# Altium footprint library PlateCutouts_OldMoney.PcbLib: 27 footprints (part 1 of 3)
Each footprint in its own frame and in the unit in brackets; x right, y up, seen from the top. Pads: shape width x height; smd on the part's side, far side on the other; paste and mask are expansions set on the pad; w line width, h text height; cw(c..) or ccw(c..) is an arc to the next point about the centre after c.
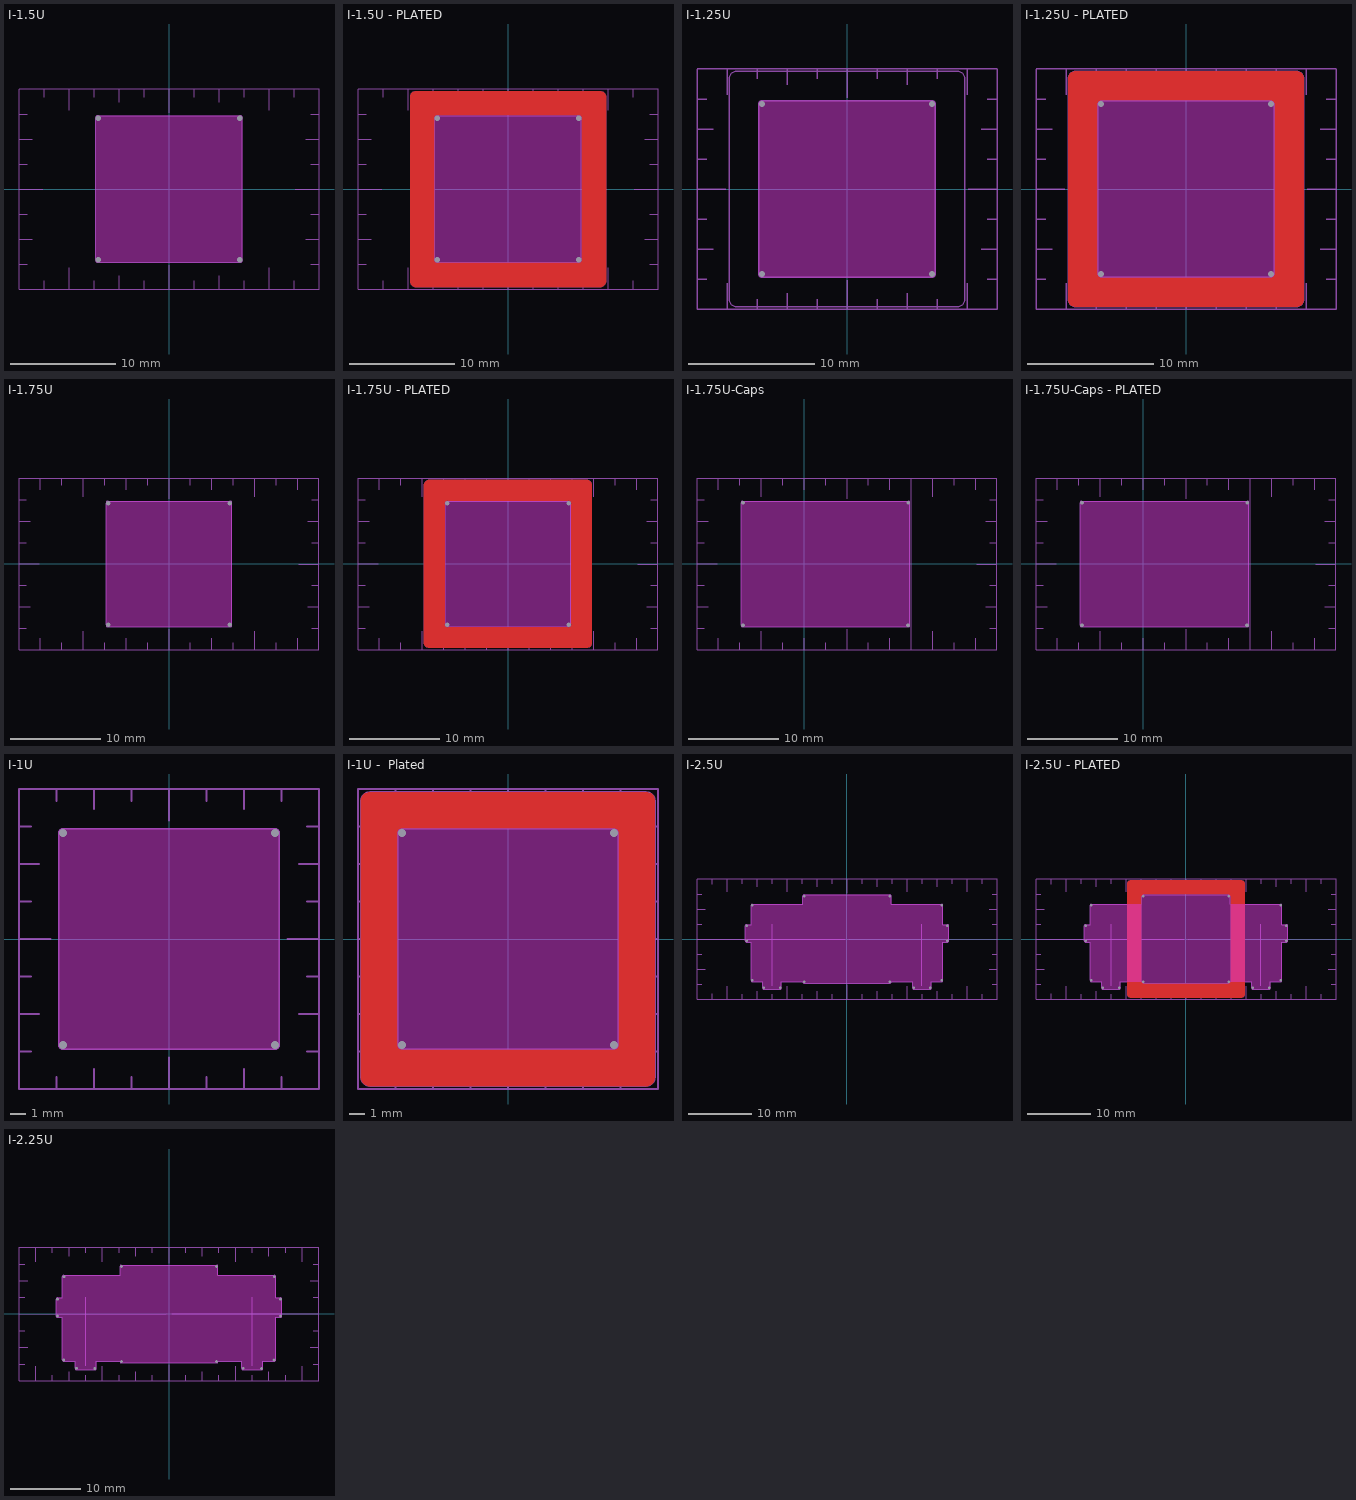
[diagram p0: the footprints below, top view; thin cyan lines are the x and y axes]

## I-1.5U [mil] "Imperial Sizing"
pads (4):
  round 3.94 hole 20 unplated: 27(-265.5,-265.5) 27(-265.5,265.5) 27(265.5,-265.5) 27(265.5,265.5)
Keep-Out Layer:
  board cut-out: -265.5,-275.5 -267.49,-275.5 -271.16,-273.98 -273.98,-271.16 -275.5,-267.49 -275.5,-265.5 -275.5,265.5 -275.5,267.49 -273.98,271.16 -271.16,273.98 -267.49,275.5 -265.5,275.5 265.5,275.5 267.49,275.5 271.16,273.98 273.98,271.16 275.5,267.49 275.5,265.5 275.5,-265.5 275.5,-267.49 273.98,-271.16 271.16,-273.98 267.49,-275.5 265.5,-275.5
Board Outline:
  lines w3.94: -275.5,-265.5 ccw(c-265.5,-265.5) -265.5,-275.5 ; -275.5,265.5 cw(c-265.5,265.5) -265.5,275.5 ; 265.5,-275.5 ccw(c265.5,-265.5) 275.5,-265.5 ; 265.5,275.5 cw(c265.5,265.5) 275.5,265.5
  lines w4: -275.5,-265.5 -275.5,265.5 ; -265.5,-275.5 265.5,-275.5 ; -265.5,275.5 265.5,275.5 ; 275.5,-265.5 275.5,265.5
  text "Cut Out" at -238.79,112.53 h39.37
  text "Cut Out" at 112.53,238.79 h39.37
  text "Cut Out" at 238.79,-112.53 h39.37
  text "Cut Out" at -112.53,-238.79 h39.37
Layout + Dimensions:
  lines w3.94: -562.5,-281.25 -531.5,-281.25 ; -562.5,-187.5 -512.5,-187.5 ; -562.5,-93.75 -531.5,-93.75 ; -562.5,0 -472.93,0 ; -562.5,93.75 -531.5,93.75 ; -562.5,187.5 -512.5,187.5 ; -562.5,281.25 -531.5,281.25 ; -468.75,-375 -468.75,-344 ; -468.75,344 -468.75,375 ; -375,-374.02 -375,-295.28 ; -375,295.28 -375,374.02 ; -281.25,-375 -281.25,-344 ; -281.25,344 -281.25,375 ; -187.5,-375 -187.5,-325 ; -187.5,325 -187.5,375 ; -93.75,-375 -93.75,-344 ; -93.75,344 -93.75,375 ; 0,-285.43 0,-375 ; 0,285.43 0,375 ; 93.75,-375 93.75,-344 ; 93.75,344 93.75,375 ; 187.5,-375 187.5,-325 ; 187.5,325 187.5,375 ; 281.25,-375 281.25,-344 ; 281.25,344 281.25,375 ; 375,-374.02 375,-295.28 ; 375,295.28 375,374.02 ; 468.75,-375 468.75,-344 ; 468.75,344 468.75,375 ; 472.93,0 562.5,0 ; 512.5,-187.5 562.5,-187.5 ; 512.5,187.5 562.5,187.5 ; 531.5,-281.25 562.5,-281.25 ; 531.5,-93.75 562.5,-93.75 ; 531.5,93.75 562.5,93.75 ; 531.5,281.25 562.5,281.25 ; 0,-375 -562.5,-375 -562.5,375 0,375 ; 0,-375 562.5,-375 562.5,375 0,375

## I-1.5U - PLATED [mil] "Imperial Sizing"
pads (4):
  round 3.94 hole 20 unplated: 27(-265.5,-265.5) 27(-265.5,265.5) 27(265.5,-265.5) 27(265.5,265.5)
Top Layer:
  region: 357.96,364.15 364.15,357.96 367.5,349.88 367.5,345.5 367.5,-345.5 367.5,-349.88 364.15,-357.96 357.96,-364.15 349.88,-367.5 -349.88,-367.5 -357.96,-364.15 -364.15,-357.96 -367.5,-349.88 -367.5,-345.5 -367.5,345.5 -367.5,349.88 -364.15,357.96 -357.96,364.15 -349.88,367.5 349.88,367.5 hole: 265.5,275.7 264.52,275.5 -264.52,275.5 -265.5,275.7 -266.48,275.5 -267.49,275.5 -268.42,275.12 -269.4,274.92 -270.24,274.36 -271.16,273.98 -271.88,273.27 -272.71,272.71 -273.27,271.88 -273.98,271.16 -274.36,270.24 -274.92,269.4 -275.12,268.42 -275.5,267.49 -275.5,266.48 -275.7,265.5 -275.5,264.52 -275.5,-264.52 -275.7,-265.5 -275.5,-266.48 -275.5,-267.49 -275.12,-268.42 -274.92,-269.4 -274.36,-270.24 -273.98,-271.16 -273.27,-271.88 -272.71,-272.71 -271.88,-273.27 -271.16,-273.98 -270.24,-274.36 -269.4,-274.92 -268.42,-275.12 -267.49,-275.5 -266.48,-275.5 -265.5,-275.7 -264.52,-275.5 264.52,-275.5 265.5,-275.7 266.48,-275.5 267.49,-275.5 268.42,-275.12 269.4,-274.92 270.24,-274.36 271.16,-273.98 271.88,-273.27 272.71,-272.71 273.27,-271.88 273.98,-271.16 274.36,-270.24 274.92,-269.4 275.12,-268.42 275.5,-267.49 275.5,-266.48 275.7,-265.5 275.5,-264.52 275.5,264.52 275.7,265.5 275.5,266.48 275.5,267.49 275.12,268.42 274.92,269.4 274.36,270.24 273.98,271.16 273.27,271.87 272.71,272.71 271.87,273.27 271.16,273.98 270.24,274.36 269.4,274.92 268.42,275.12 267.49,275.5 266.48,275.5
Bottom Layer:
  region: 357.96,364.15 364.15,357.96 367.5,349.88 367.5,345.5 367.5,-345.5 367.5,-349.88 364.15,-357.96 357.96,-364.15 349.88,-367.5 -349.88,-367.5 -357.96,-364.15 -364.15,-357.96 -367.5,-349.88 -367.5,-345.5 -367.5,345.5 -367.5,349.88 -364.15,357.96 -357.96,364.15 -349.88,367.5 349.88,367.5 hole: 265.5,275.7 264.52,275.5 -264.52,275.5 -265.5,275.7 -266.48,275.5 -267.49,275.5 -268.42,275.12 -269.4,274.92 -270.24,274.36 -271.16,273.98 -271.88,273.27 -272.71,272.71 -273.27,271.88 -273.98,271.16 -274.36,270.24 -274.92,269.4 -275.12,268.42 -275.5,267.49 -275.5,266.48 -275.7,265.5 -275.5,264.52 -275.5,-264.52 -275.7,-265.5 -275.5,-266.48 -275.5,-267.49 -275.12,-268.42 -274.92,-269.4 -274.36,-270.24 -273.98,-271.16 -273.27,-271.88 -272.71,-272.71 -271.88,-273.27 -271.16,-273.98 -270.24,-274.36 -269.4,-274.92 -268.42,-275.12 -267.49,-275.5 -266.48,-275.5 -265.5,-275.7 -264.52,-275.5 264.52,-275.5 265.5,-275.7 266.48,-275.5 267.49,-275.5 268.42,-275.12 269.4,-274.92 270.24,-274.36 271.16,-273.98 271.88,-273.27 272.71,-272.71 273.27,-271.88 273.98,-271.16 274.36,-270.24 274.92,-269.4 275.12,-268.42 275.5,-267.49 275.5,-266.48 275.7,-265.5 275.5,-264.52 275.5,264.52 275.7,265.5 275.5,266.48 275.5,267.49 275.12,268.42 274.92,269.4 274.36,270.24 273.98,271.16 273.27,271.87 272.71,272.71 271.87,273.27 271.16,273.98 270.24,274.36 269.4,274.92 268.42,275.12 267.49,275.5 266.48,275.5
Top Solder:
  region: -345.5,-367.5 -349.88,-367.5 -357.96,-364.15 -364.15,-357.96 -367.5,-349.88 -367.5,-345.5 -367.5,345.5 -367.5,349.88 -364.15,357.96 -357.96,364.15 -349.88,367.5 -345.5,367.5 345.5,367.5 349.88,367.5 357.96,364.15 364.15,357.96 367.5,349.88 367.5,345.5 367.5,-345.5 367.5,-349.88 364.15,-357.96 357.96,-364.15 349.88,-367.5 345.5,-367.5
Bottom Solder:
  region: -345.5,-367.5 -349.88,-367.5 -357.96,-364.15 -364.15,-357.96 -367.5,-349.88 -367.5,-345.5 -367.5,345.5 -367.5,349.88 -364.15,357.96 -357.96,364.15 -349.88,367.5 -345.5,367.5 345.5,367.5 349.88,367.5 357.96,364.15 364.15,357.96 367.5,349.88 367.5,345.5 367.5,-345.5 367.5,-349.88 364.15,-357.96 357.96,-364.15 349.88,-367.5 345.5,-367.5
Keep-Out Layer:
  board cut-out: -265.5,-275.5 -267.49,-275.5 -271.16,-273.98 -273.98,-271.16 -275.5,-267.49 -275.5,-265.5 -275.5,265.5 -275.5,267.49 -273.98,271.16 -271.16,273.98 -267.49,275.5 -265.5,275.5 265.5,275.5 267.49,275.5 271.16,273.98 273.98,271.16 275.5,267.49 275.5,265.5 275.5,-265.5 275.5,-267.49 273.98,-271.16 271.16,-273.98 267.49,-275.5 265.5,-275.5
Board Outline:
  lines w3.94: -275.5,-265.5 ccw(c-265.5,-265.5) -265.5,-275.5 ; -275.5,265.5 cw(c-265.5,265.5) -265.5,275.5 ; 265.5,-275.5 ccw(c265.5,-265.5) 275.5,-265.5 ; 265.5,275.5 cw(c265.5,265.5) 275.5,265.5
  lines w4: -275.5,-265.5 -275.5,265.5 ; -265.5,-275.5 265.5,-275.5 ; -265.5,275.5 265.5,275.5 ; 275.5,-265.5 275.5,265.5
  text "Cut Out" at -238.79,112.53 h39.37
  text "Cut Out" at 112.53,238.79 h39.37
  text "Cut Out" at 238.79,-112.53 h39.37
  text "Cut Out" at -112.53,-238.79 h39.37
Layout + Dimensions:
  lines w3.94: -562.5,-281.25 -531.5,-281.25 ; -562.5,-187.5 -512.5,-187.5 ; -562.5,-93.75 -531.5,-93.75 ; -562.5,0 -472.93,0 ; -562.5,93.75 -531.5,93.75 ; -562.5,187.5 -512.5,187.5 ; -562.5,281.25 -531.5,281.25 ; -468.75,-375 -468.75,-344 ; -468.75,344 -468.75,375 ; -375,-374.02 -375,-295.28 ; -375,295.28 -375,374.02 ; -281.25,-375 -281.25,-344 ; -281.25,344 -281.25,375 ; -187.5,-375 -187.5,-325 ; -187.5,325 -187.5,375 ; -93.75,-375 -93.75,-344 ; -93.75,344 -93.75,375 ; 0,-285.43 0,-375 ; 0,285.43 0,375 ; 93.75,-375 93.75,-344 ; 93.75,344 93.75,375 ; 187.5,-375 187.5,-325 ; 187.5,325 187.5,375 ; 281.25,-375 281.25,-344 ; 281.25,344 281.25,375 ; 375,-374.02 375,-295.28 ; 375,295.28 375,374.02 ; 468.75,-375 468.75,-344 ; 468.75,344 468.75,375 ; 472.93,0 562.5,0 ; 512.5,-187.5 562.5,-187.5 ; 512.5,187.5 562.5,187.5 ; 531.5,-281.25 562.5,-281.25 ; 531.5,-93.75 562.5,-93.75 ; 531.5,93.75 562.5,93.75 ; 531.5,281.25 562.5,281.25 ; 0,-375 -562.5,-375 -562.5,375 0,375 ; 0,-375 562.5,-375 562.5,375 0,375

## I-1.25U [mil] "Imperial Sizing"
pads (4):
  round 3.94 hole 20 unplated: 27(-265.5,-265.5) 27(-265.5,265.5) 27(265.5,-265.5) 27(265.5,265.5)
Keep-Out Layer:
  board cut-out: -265.5,-275.5 -267.49,-275.5 -271.16,-273.98 -273.98,-271.16 -275.5,-267.49 -275.5,-265.5 -275.5,265.5 -275.5,267.49 -273.98,271.16 -271.16,273.98 -267.49,275.5 -265.5,275.5 265.5,275.5 267.49,275.5 271.16,273.98 273.98,271.16 275.5,267.49 275.5,265.5 275.5,-265.5 275.5,-267.49 273.98,-271.16 271.16,-273.98 267.49,-275.5 265.5,-275.5
Board Outline:
  lines w3.94: -275.5,-265.5 ccw(c-265.5,-265.5) -265.5,-275.5 ; -275.5,265.5 cw(c-265.5,265.5) -265.5,275.5 ; 265.5,-275.5 ccw(c265.5,-265.5) 275.5,-265.5 ; 265.5,275.5 cw(c265.5,265.5) 275.5,265.5
  lines w4: -275.5,-265.5 -275.5,265.5 ; -265.5,-275.5 265.5,-275.5 ; -265.5,275.5 265.5,275.5 ; 275.5,-265.5 275.5,265.5
  text "Cut Out" at -238.79,112.53 h39.37
  text "Cut Out" at 112.53,238.79 h39.37
  text "Cut Out" at 238.79,-112.53 h39.37
  text "Cut Out" at -112.53,-238.79 h39.37
Layout + Dimensions:
  lines w4: -468.75,-281.25 -437.75,-281.25 ; -468.75,-187.5 -418.75,-187.5 ; -468.75,-93.75 -437.75,-93.75 ; -468.75,0 -379.18,0 ; -468.75,93.75 -437.75,93.75 ; -468.75,187.5 -418.75,187.5 ; -468.75,281.25 -437.75,281.25 ; -375,-374.02 -375,-295.28 ; -375,295.28 -375,374.02 ; -281.25,-375 -281.25,-344 ; -281.25,344 -281.25,375 ; -187.5,-375 -187.5,-325 ; -187.5,325 -187.5,375 ; -93.75,-375 -93.75,-344 ; -93.75,344 -93.75,375 ; 0,-285.43 0,-375 ; 0,285.43 0,375 ; 93.75,-375 93.75,-344 ; 93.75,344 93.75,375 ; 187.5,-375 187.5,-325 ; 187.5,325 187.5,375 ; 281.25,-375 281.25,-344 ; 281.25,344 281.25,375 ; 375,-374.02 375,-295.28 ; 375,295.28 375,374.02 ; 379.43,0 468.5,0 ; 418.75,-187.5 468.75,-187.5 ; 418.75,187.5 468.75,187.5 ; 437.75,-281.25 468.75,-281.25 ; 437.75,-93.75 468.75,-93.75 ; 437.75,93.75 468.75,93.75 ; 437.75,281.25 468.75,281.25 ; 0,-375 468.75,-375 468.75,375 0,375 ; 0,-375 -468.75,-375 -468.75,375 0,375 ; -367.5,-345.5 ccw(c-345.5,-345.5) -345.5,-367.5 345.5,-367.5 ccw(c345.5,-345.5) 367.5,-345.5 367.5,345.5 ccw(c345.5,345.5) 345.5,367.5 -345.5,367.5 ccw(c-345.5,345.5) -367.5,345.5 -367.5,-345.5

## I-1.25U - PLATED [mil] "Imperial Sizing"
pads (4):
  round 3.94 hole 20 unplated: 27(-265.5,-265.5) 27(-265.5,265.5) 27(265.5,-265.5) 27(265.5,265.5)
Top Layer:
  region: 357.96,364.15 364.15,357.96 367.5,349.88 367.5,345.5 367.5,-345.5 367.5,-349.88 364.15,-357.96 357.96,-364.15 349.88,-367.5 -349.88,-367.5 -357.96,-364.15 -364.15,-357.96 -367.5,-349.88 -367.5,-345.5 -367.5,345.5 -367.5,349.88 -364.15,357.96 -357.96,364.15 -349.88,367.5 349.88,367.5 hole: 265.5,275.7 264.51,275.5 -264.52,275.5 -265.5,275.7 -266.48,275.5 -267.49,275.5 -268.42,275.12 -269.4,274.92 -270.24,274.36 -271.16,273.98 -271.88,273.27 -272.71,272.71 -273.27,271.88 -273.98,271.16 -274.36,270.24 -274.92,269.4 -275.12,268.42 -275.5,267.49 -275.5,266.48 -275.7,265.5 -275.5,264.52 -275.5,-264.52 -275.7,-265.5 -275.5,-266.48 -275.5,-267.49 -275.12,-268.42 -274.92,-269.4 -274.36,-270.24 -273.98,-271.16 -273.27,-271.88 -272.71,-272.71 -271.88,-273.27 -271.17,-273.98 -270.24,-274.36 -269.4,-274.92 -268.42,-275.12 -267.49,-275.5 -266.49,-275.5 -265.5,-275.7 -264.52,-275.5 264.52,-275.5 265.5,-275.7 266.48,-275.5 267.49,-275.5 268.42,-275.12 269.4,-274.92 270.24,-274.36 271.16,-273.98 271.87,-273.27 272.71,-272.71 273.27,-271.88 273.98,-271.16 274.36,-270.24 274.92,-269.4 275.12,-268.42 275.5,-267.49 275.5,-266.48 275.7,-265.5 275.5,-264.52 275.5,264.52 275.7,265.5 275.5,266.48 275.5,267.49 275.12,268.42 274.92,269.4 274.36,270.24 273.98,271.16 273.27,271.87 272.71,272.71 271.87,273.27 271.16,273.98 270.24,274.36 269.4,274.92 268.42,275.12 267.49,275.5 266.48,275.5
Bottom Layer:
  region: 357.96,364.15 364.15,357.96 367.5,349.88 367.5,345.5 367.5,-345.5 367.5,-349.88 364.15,-357.96 357.96,-364.15 349.88,-367.5 -349.88,-367.5 -357.96,-364.15 -364.15,-357.96 -367.5,-349.88 -367.5,-345.5 -367.5,345.5 -367.5,349.88 -364.15,357.96 -357.96,364.15 -349.88,367.5 349.88,367.5 hole: 265.5,275.7 264.51,275.5 -264.52,275.5 -265.5,275.7 -266.48,275.5 -267.49,275.5 -268.42,275.12 -269.4,274.92 -270.24,274.36 -271.16,273.98 -271.88,273.27 -272.71,272.71 -273.27,271.88 -273.98,271.16 -274.36,270.24 -274.92,269.4 -275.12,268.42 -275.5,267.49 -275.5,266.48 -275.7,265.5 -275.5,264.52 -275.5,-264.52 -275.7,-265.5 -275.5,-266.48 -275.5,-267.49 -275.12,-268.42 -274.92,-269.4 -274.36,-270.24 -273.98,-271.16 -273.27,-271.88 -272.71,-272.71 -271.88,-273.27 -271.17,-273.98 -270.24,-274.36 -269.4,-274.92 -268.42,-275.12 -267.49,-275.5 -266.49,-275.5 -265.5,-275.7 -264.52,-275.5 264.52,-275.5 265.5,-275.7 266.48,-275.5 267.49,-275.5 268.42,-275.12 269.4,-274.92 270.24,-274.36 271.16,-273.98 271.87,-273.27 272.71,-272.71 273.27,-271.88 273.98,-271.16 274.36,-270.24 274.92,-269.4 275.12,-268.42 275.5,-267.49 275.5,-266.48 275.7,-265.5 275.5,-264.52 275.5,264.52 275.7,265.5 275.5,266.48 275.5,267.49 275.12,268.42 274.92,269.4 274.36,270.24 273.98,271.16 273.27,271.87 272.71,272.71 271.87,273.27 271.16,273.98 270.24,274.36 269.4,274.92 268.42,275.12 267.49,275.5 266.48,275.5
Top Solder:
  region: -345.5,-367.5 -349.88,-367.5 -357.96,-364.15 -364.15,-357.96 -367.5,-349.88 -367.5,-345.5 -367.5,345.5 -367.5,349.88 -364.15,357.96 -357.96,364.15 -349.88,367.5 -345.5,367.5 345.5,367.5 349.88,367.5 357.96,364.15 364.15,357.96 367.5,349.88 367.5,345.5 367.5,-345.5 367.5,-349.88 364.15,-357.96 357.96,-364.15 349.88,-367.5 345.5,-367.5
Bottom Solder:
  region: -345.5,-367.5 -349.88,-367.5 -357.96,-364.15 -364.15,-357.96 -367.5,-349.88 -367.5,-345.5 -367.5,345.5 -367.5,349.88 -364.15,357.96 -357.96,364.15 -349.88,367.5 -345.5,367.5 345.5,367.5 349.88,367.5 357.96,364.15 364.15,357.96 367.5,349.88 367.5,345.5 367.5,-345.5 367.5,-349.88 364.15,-357.96 357.96,-364.15 349.88,-367.5 345.5,-367.5
Keep-Out Layer:
  board cut-out: -265.5,-275.5 -267.49,-275.5 -271.16,-273.98 -273.98,-271.16 -275.5,-267.49 -275.5,-265.5 -275.5,265.5 -275.5,267.49 -273.98,271.16 -271.16,273.98 -267.49,275.5 -265.5,275.5 265.5,275.5 267.49,275.5 271.16,273.98 273.98,271.16 275.5,267.49 275.5,265.5 275.5,-265.5 275.5,-267.49 273.98,-271.16 271.16,-273.98 267.49,-275.5 265.5,-275.5
Board Outline:
  lines w3.94: -275.5,-265.5 ccw(c-265.5,-265.5) -265.5,-275.5 ; -275.5,265.5 cw(c-265.5,265.5) -265.5,275.5 ; 265.5,-275.5 ccw(c265.5,-265.5) 275.5,-265.5 ; 265.5,275.5 cw(c265.5,265.5) 275.5,265.5
  lines w4: -275.5,-265.5 -275.5,265.5 ; -265.5,-275.5 265.5,-275.5 ; -265.5,275.5 265.5,275.5 ; 275.5,-265.5 275.5,265.5
  text "Cut Out" at -238.79,112.53 h39.37
  text "Cut Out" at 112.53,238.79 h39.37
  text "Cut Out" at 238.79,-112.53 h39.37
  text "Cut Out" at -112.53,-238.79 h39.37
Layout + Dimensions:
  lines w4: -468.75,-281.25 -437.75,-281.25 ; -468.75,-187.5 -418.75,-187.5 ; -468.75,-93.75 -437.75,-93.75 ; -468.75,0 -379.18,0 ; -468.75,93.75 -437.75,93.75 ; -468.75,187.5 -418.75,187.5 ; -468.75,281.25 -437.75,281.25 ; -375,-374.02 -375,-295.28 ; -375,295.28 -375,374.02 ; -281.25,-375 -281.25,-344 ; -281.25,344 -281.25,375 ; -187.5,-375 -187.5,-325 ; -187.5,325 -187.5,375 ; -93.75,-375 -93.75,-344 ; -93.75,344 -93.75,375 ; 0,-285.43 0,-375 ; 0,285.43 0,375 ; 93.75,-375 93.75,-344 ; 93.75,344 93.75,375 ; 187.5,-375 187.5,-325 ; 187.5,325 187.5,375 ; 281.25,-375 281.25,-344 ; 281.25,344 281.25,375 ; 375,-374.02 375,-295.28 ; 375,295.28 375,374.02 ; 379.43,0 468.5,0 ; 418.75,-187.5 468.75,-187.5 ; 418.75,187.5 468.75,187.5 ; 437.75,-281.25 468.75,-281.25 ; 437.75,-93.75 468.75,-93.75 ; 437.75,93.75 468.75,93.75 ; 437.75,281.25 468.75,281.25 ; 0,-375 468.75,-375 468.75,375 0,375 ; 0,-375 -468.75,-375 -468.75,375 0,375 ; -367.5,-345.5 ccw(c-345.5,-345.5) -345.5,-367.5 345.5,-367.5 ccw(c345.5,-345.5) 367.5,-345.5 367.5,345.5 ccw(c345.5,345.5) 345.5,367.5 -345.5,367.5 ccw(c-345.5,345.5) -367.5,345.5 -367.5,-345.5

## I-1.75U [mil] "Imperial Sizing"
pads (4):
  round 3.94 hole 20 unplated: 27(-265.5,-265.5) 27(-265.5,265.5) 27(265.5,-265.5) 27(265.5,265.5)
Keep-Out Layer:
  board cut-out: -265.5,-275.5 -267.49,-275.5 -271.16,-273.98 -273.98,-271.16 -275.5,-267.49 -275.5,-265.5 -275.5,265.5 -275.5,267.49 -273.98,271.16 -271.16,273.98 -267.49,275.5 -265.5,275.5 265.5,275.5 267.49,275.5 271.16,273.98 273.98,271.16 275.5,267.49 275.5,265.5 275.5,-265.5 275.5,-267.49 273.98,-271.16 271.16,-273.98 267.49,-275.5 265.5,-275.5
Board Outline:
  lines w3.94: -275.5,-265.5 ccw(c-265.5,-265.5) -265.5,-275.5 ; -275.5,265.5 cw(c-265.5,265.5) -265.5,275.5 ; 265.5,-275.5 ccw(c265.5,-265.5) 275.5,-265.5 ; 265.5,275.5 cw(c265.5,265.5) 275.5,265.5
  lines w4: -275.5,-265.5 -275.5,265.5 ; -265.5,-275.5 265.5,-275.5 ; -265.5,275.5 265.5,275.5 ; 275.5,-265.5 275.5,265.5
  text "Cut Out" at -238.79,112.53 h39.37
  text "Cut Out" at 112.53,238.79 h39.37
  text "Cut Out" at 238.79,-112.53 h39.37
  text "Cut Out" at -112.53,-238.79 h39.37
Layout + Dimensions:
  lines w3.94: -656.25,-281.25 -625.25,-281.25 ; -656.25,-187.5 -606.25,-187.5 ; -656.25,-93.75 -625.25,-93.75 ; -656.25,0 -566.68,0 ; -656.25,93.75 -625.25,93.75 ; -656.25,187.5 -606.25,187.5 ; -656.25,281.25 -625.25,281.25 ; -562.5,-375 -562.5,-325 ; -562.5,325 -562.5,375 ; -468.75,-375 -468.75,-344 ; -468.75,344 -468.75,375 ; -375,-374.02 -375,-295.28 ; -375,295.28 -375,374.02 ; -281.25,-375 -281.25,-344 ; -281.25,344 -281.25,375 ; -187.5,-375 -187.5,-325 ; -187.5,325 -187.5,375 ; -93.75,-375 -93.75,-344 ; -93.75,344 -93.75,375 ; 0,-285.43 0,-375 ; 0,285.43 0,375 ; 93.75,-375 93.75,-344 ; 93.75,344 93.75,375 ; 187.5,-375 187.5,-325 ; 187.5,325 187.5,375 ; 281.25,-375 281.25,-344 ; 281.25,344 281.25,375 ; 375,-374.02 375,-295.28 ; 375,295.28 375,374.02 ; 468.75,-375 468.75,-344 ; 468.75,344 468.75,375 ; 562.5,-375 562.5,-325 ; 562.5,325 562.5,375 ; 566.68,0 656.25,0 ; 606.25,-187.5 656.25,-187.5 ; 606.25,187.5 656.25,187.5 ; 625.25,-281.25 656.25,-281.25 ; 625.25,-93.75 656.25,-93.75 ; 625.25,93.75 656.25,93.75 ; 625.25,281.25 656.25,281.25 ; 656.25,344 656.25,375 ; 0,-375 -656.25,-375 -656.25,375 0,375 ; 0,-375 656.25,-375 656.25,375 ; 0,375 656.25,375

## I-1.75U - PLATED [mil] "Imperial Sizing"
pads (4):
  round 3.94 hole 20 unplated: 27(-265.5,-265.5) 27(-265.5,265.5) 27(265.5,-265.5) 27(265.5,265.5)
Top Layer:
  region: 357.96,364.15 364.15,357.96 367.5,349.88 367.5,345.5 367.5,-345.5 367.5,-349.88 364.15,-357.96 357.96,-364.15 349.88,-367.5 -349.88,-367.5 -357.96,-364.15 -364.15,-357.96 -367.5,-349.88 -367.5,-345.5 -367.5,345.5 -367.5,349.88 -364.15,357.96 -357.96,364.15 -349.88,367.5 349.88,367.5 hole: 265.5,275.7 264.51,275.5 -264.52,275.5 -265.5,275.7 -266.48,275.5 -267.49,275.5 -268.42,275.12 -269.4,274.92 -270.24,274.36 -271.16,273.98 -271.88,273.27 -272.71,272.71 -273.27,271.88 -273.98,271.16 -274.36,270.24 -274.92,269.4 -275.12,268.42 -275.5,267.49 -275.5,266.48 -275.7,265.5 -275.5,264.52 -275.5,-264.52 -275.7,-265.5 -275.5,-266.48 -275.5,-267.49 -275.12,-268.42 -274.92,-269.4 -274.36,-270.24 -273.98,-271.16 -273.27,-271.88 -272.71,-272.71 -271.88,-273.27 -271.17,-273.98 -270.24,-274.36 -269.4,-274.92 -268.42,-275.12 -267.49,-275.5 -266.49,-275.5 -265.5,-275.7 -264.52,-275.5 264.52,-275.5 265.5,-275.7 266.48,-275.5 267.49,-275.5 268.42,-275.12 269.4,-274.92 270.24,-274.36 271.16,-273.98 271.87,-273.27 272.71,-272.71 273.27,-271.88 273.98,-271.16 274.36,-270.24 274.92,-269.4 275.12,-268.42 275.5,-267.49 275.5,-266.48 275.7,-265.5 275.5,-264.52 275.5,264.52 275.7,265.5 275.5,266.48 275.5,267.49 275.12,268.42 274.92,269.4 274.36,270.24 273.98,271.16 273.27,271.87 272.71,272.71 271.87,273.27 271.16,273.98 270.24,274.36 269.4,274.92 268.42,275.12 267.49,275.5 266.48,275.5
Bottom Layer:
  region: 357.96,364.15 364.15,357.96 367.5,349.88 367.5,345.5 367.5,-345.5 367.5,-349.88 364.15,-357.96 357.96,-364.15 349.88,-367.5 -349.88,-367.5 -357.96,-364.15 -364.15,-357.96 -367.5,-349.88 -367.5,-345.5 -367.5,345.5 -367.5,349.88 -364.15,357.96 -357.96,364.15 -349.88,367.5 349.88,367.5 hole: 265.5,275.7 264.51,275.5 -264.52,275.5 -265.5,275.7 -266.48,275.5 -267.49,275.5 -268.42,275.12 -269.4,274.92 -270.24,274.36 -271.16,273.98 -271.88,273.27 -272.71,272.71 -273.27,271.88 -273.98,271.16 -274.36,270.24 -274.92,269.4 -275.12,268.42 -275.5,267.49 -275.5,266.48 -275.7,265.5 -275.5,264.52 -275.5,-264.52 -275.7,-265.5 -275.5,-266.48 -275.5,-267.49 -275.12,-268.42 -274.92,-269.4 -274.36,-270.24 -273.98,-271.16 -273.27,-271.88 -272.71,-272.71 -271.88,-273.27 -271.17,-273.98 -270.24,-274.36 -269.4,-274.92 -268.42,-275.12 -267.49,-275.5 -266.49,-275.5 -265.5,-275.7 -264.52,-275.5 264.52,-275.5 265.5,-275.7 266.48,-275.5 267.49,-275.5 268.42,-275.12 269.4,-274.92 270.24,-274.36 271.16,-273.98 271.87,-273.27 272.71,-272.71 273.27,-271.88 273.98,-271.16 274.36,-270.24 274.92,-269.4 275.12,-268.42 275.5,-267.49 275.5,-266.48 275.7,-265.5 275.5,-264.52 275.5,264.52 275.7,265.5 275.5,266.48 275.5,267.49 275.12,268.42 274.92,269.4 274.36,270.24 273.98,271.16 273.27,271.87 272.71,272.71 271.87,273.27 271.16,273.98 270.24,274.36 269.4,274.92 268.42,275.12 267.49,275.5 266.48,275.5
Top Solder:
  region: -345.5,-367.5 -349.88,-367.5 -357.96,-364.15 -364.15,-357.96 -367.5,-349.88 -367.5,-345.5 -367.5,345.5 -367.5,349.88 -364.15,357.96 -357.96,364.15 -349.88,367.5 -345.5,367.5 345.5,367.5 349.88,367.5 357.96,364.15 364.15,357.96 367.5,349.88 367.5,345.5 367.5,-345.5 367.5,-349.88 364.15,-357.96 357.96,-364.15 349.88,-367.5 345.5,-367.5
Bottom Solder:
  region: -345.5,-367.5 -349.88,-367.5 -357.96,-364.15 -364.15,-357.96 -367.5,-349.88 -367.5,-345.5 -367.5,345.5 -367.5,349.88 -364.15,357.96 -357.96,364.15 -349.88,367.5 -345.5,367.5 345.5,367.5 349.88,367.5 357.96,364.15 364.15,357.96 367.5,349.88 367.5,345.5 367.5,-345.5 367.5,-349.88 364.15,-357.96 357.96,-364.15 349.88,-367.5 345.5,-367.5
Keep-Out Layer:
  board cut-out: -265.5,-275.5 -267.49,-275.5 -271.16,-273.98 -273.98,-271.16 -275.5,-267.49 -275.5,-265.5 -275.5,265.5 -275.5,267.49 -273.98,271.16 -271.16,273.98 -267.49,275.5 -265.5,275.5 265.5,275.5 267.49,275.5 271.16,273.98 273.98,271.16 275.5,267.49 275.5,265.5 275.5,-265.5 275.5,-267.49 273.98,-271.16 271.16,-273.98 267.49,-275.5 265.5,-275.5
Board Outline:
  lines w3.94: -275.5,-265.5 ccw(c-265.5,-265.5) -265.5,-275.5 ; -275.5,265.5 cw(c-265.5,265.5) -265.5,275.5 ; 265.5,-275.5 ccw(c265.5,-265.5) 275.5,-265.5 ; 265.5,275.5 cw(c265.5,265.5) 275.5,265.5
  lines w4: -275.5,-265.5 -275.5,265.5 ; -265.5,-275.5 265.5,-275.5 ; -265.5,275.5 265.5,275.5 ; 275.5,-265.5 275.5,265.5
  text "Cut Out" at -238.79,112.53 h39.37
  text "Cut Out" at 112.53,238.79 h39.37
  text "Cut Out" at 238.79,-112.53 h39.37
  text "Cut Out" at -112.53,-238.79 h39.37
Layout + Dimensions:
  lines w3.94: -656.25,-281.25 -625.25,-281.25 ; -656.25,-187.5 -606.25,-187.5 ; -656.25,-93.75 -625.25,-93.75 ; -656.25,0 -566.68,0 ; -656.25,93.75 -625.25,93.75 ; -656.25,187.5 -606.25,187.5 ; -656.25,281.25 -625.25,281.25 ; -562.5,-375 -562.5,-325 ; -562.5,325 -562.5,375 ; -468.75,-375 -468.75,-344 ; -468.75,344 -468.75,375 ; -375,-374.02 -375,-295.28 ; -375,295.28 -375,374.02 ; -281.25,-375 -281.25,-344 ; -281.25,344 -281.25,375 ; -187.5,-375 -187.5,-325 ; -187.5,325 -187.5,375 ; -93.75,-375 -93.75,-344 ; -93.75,344 -93.75,375 ; 0,-285.43 0,-375 ; 0,285.43 0,375 ; 93.75,-375 93.75,-344 ; 93.75,344 93.75,375 ; 187.5,-375 187.5,-325 ; 187.5,325 187.5,375 ; 281.25,-375 281.25,-344 ; 281.25,344 281.25,375 ; 375,-374.02 375,-295.28 ; 375,295.28 375,374.02 ; 468.75,-375 468.75,-344 ; 468.75,344 468.75,375 ; 562.5,-375 562.5,-325 ; 562.5,325 562.5,375 ; 566.68,0 656.25,0 ; 606.25,-187.5 656.25,-187.5 ; 606.25,187.5 656.25,187.5 ; 625.25,-281.25 656.25,-281.25 ; 625.25,-93.75 656.25,-93.75 ; 625.25,93.75 656.25,93.75 ; 625.25,281.25 656.25,281.25 ; 656.25,344 656.25,375 ; 0,-375 -656.25,-375 -656.25,375 0,375 ; 0,-375 656.25,-375 656.25,375 ; 0,375 656.25,375

## I-1.75U-Caps [mm] "Imperial Sizing"
pads (4):
  round 0.1 hole 0.4 unplated: 27(-6.8,-6.795) 27(-6.795,6.8) 27(11.545,-6.8) 27(11.55,6.795)
Keep-Out Layer:
  board cut-out: -6.8,-7 -6.84,-7 -6.913,-6.97 -6.97,-6.913 -7,-6.84 -7,-6.8 -7,6.8 -7,6.84 -6.97,6.913 -6.913,6.97 -6.84,7 -6.8,7 11.55,7 11.59,7 11.663,6.97 11.72,6.913 11.75,6.84 11.75,6.8 11.75,-6.8 11.75,-6.84 11.72,-6.913 11.663,-6.97 11.59,-7 11.55,-7
Board Outline:
  lines w0.1: -7,-6.8 ccw(c-6.8,-6.8) -6.8,-7 11.55,-7 ccw(c11.55,-6.8) 11.75,-6.8 11.75,6.8 ccw(c11.55,6.8) 11.55,7 -6.8,7 ccw(c-6.8,6.8) -7,6.8 -7,-6.8
  text "Cut Out" at -6.122,2.802 h1
  text "Cut Out" at 5.342,6.009 h1
  text "Cut Out" at 10.771,-2.915 h1
  text "Cut Out" at -0.375,-6.122 h1
Layout + Dimensions:
  lines w0.1: -11.906,-7.144 -11.119,-7.144 ; -11.906,-4.763 -10.636,-4.763 ; -11.906,-2.381 -11.119,-2.381 ; -11.906,0 -9.631,0 ; -11.906,2.381 -11.119,2.381 ; -11.906,4.762 -10.636,4.762 ; -11.906,7.144 -11.119,7.144 ; -9.525,-9.525 -9.525,-8.255 ; -9.525,8.255 -9.525,9.525 ; -7.144,-9.525 -7.144,-8.738 ; -7.144,8.738 -7.144,9.525 ; -4.763,-9.5 -4.763,-7.5 ; -4.763,7.5 -4.763,9.5 ; -2.381,-9.525 -2.381,-8.738 ; -2.381,8.738 -2.381,9.525 ; 0,-9.525 0,-8.255 ; 0,8.255 0,9.525 ; 2.381,-9.525 2.381,-8.738 ; 2.381,8.738 2.381,9.525 ; 4.763,-7.25 4.763,-9.525 ; 4.763,7.25 4.763,9.525 ; 7.144,-9.525 7.144,-8.738 ; 7.144,8.738 7.144,9.525 ; 9.525,-9.525 9.525,-8.255 ; 9.525,8.255 9.525,9.525 ; 11.906,-9.525 11.906,9.525 ; 14.287,-9.5 14.287,-7.5 ; 14.287,7.5 14.287,9.5 ; 16.669,-9.525 16.669,-8.738 ; 16.669,8.738 16.669,9.525 ; 19.05,-9.525 19.05,-8.255 ; 19.05,8.255 19.05,9.525 ; 19.156,0 21.431,0 ; 20.161,-4.763 21.431,-4.763 ; 20.161,4.762 21.431,4.762 ; 20.644,-7.144 21.431,-7.144 ; 20.644,-2.381 21.431,-2.381 ; 20.644,2.381 21.431,2.381 ; 20.644,7.144 21.431,7.144 ; 21.431,8.738 21.431,9.525 ; 4.763,-9.525 -11.906,-9.525 -11.906,9.525 4.763,9.525 ; 4.763,-9.525 21.431,-9.525 21.431,9.525 ; 4.763,9.525 21.431,9.525
  text "1.5" at 4.197,-6.458 h1
  text "1.25" at -1.365,-6.356 h1

## I-1.75U-Caps - PLATED [mm] "Imperial Sizing"
pads (4):
  round 0.1 hole 0.4 unplated: 27(-6.8,-6.795) 27(-6.795,6.8) 27(11.545,-6.8) 27(11.55,6.795)
Keep-Out Layer:
  board cut-out: -6.8,-7 -6.84,-7 -6.913,-6.97 -6.97,-6.913 -7,-6.84 -7,-6.8 -7,6.8 -7,6.84 -6.97,6.913 -6.913,6.97 -6.84,7 -6.8,7 11.55,7 11.59,7 11.663,6.97 11.72,6.913 11.75,6.84 11.75,6.8 11.75,-6.8 11.75,-6.84 11.72,-6.913 11.663,-6.97 11.59,-7 11.55,-7
Board Outline:
  lines w0.1: -7,-6.8 ccw(c-6.8,-6.8) -6.8,-7 11.55,-7 ccw(c11.55,-6.8) 11.75,-6.8 11.75,6.8 ccw(c11.55,6.8) 11.55,7 -6.8,7 ccw(c-6.8,6.8) -7,6.8 -7,-6.8
  text "Cut Out" at -6.122,2.802 h1
  text "Cut Out" at 5.342,6.009 h1
  text "Cut Out" at 10.771,-2.915 h1
  text "Cut Out" at -0.375,-6.122 h1
Layout + Dimensions:
  lines w0.1: -11.906,-7.144 -11.119,-7.144 ; -11.906,-4.763 -10.636,-4.763 ; -11.906,-2.381 -11.119,-2.381 ; -11.906,0 -9.631,0 ; -11.906,2.381 -11.119,2.381 ; -11.906,4.762 -10.636,4.762 ; -11.906,7.144 -11.119,7.144 ; -9.525,-9.525 -9.525,-8.255 ; -9.525,8.255 -9.525,9.525 ; -7.144,-9.525 -7.144,-8.738 ; -7.144,8.738 -7.144,9.525 ; -4.763,-9.5 -4.763,-7.5 ; -4.763,7.5 -4.763,9.5 ; -2.381,-9.525 -2.381,-8.738 ; -2.381,8.738 -2.381,9.525 ; 0,-9.525 0,-8.255 ; 0,8.255 0,9.525 ; 2.381,-9.525 2.381,-8.738 ; 2.381,8.738 2.381,9.525 ; 4.763,-7.25 4.763,-9.525 ; 4.763,7.25 4.763,9.525 ; 7.144,-9.525 7.144,-8.738 ; 7.144,8.738 7.144,9.525 ; 9.525,-9.525 9.525,-8.255 ; 9.525,8.255 9.525,9.525 ; 11.906,-9.525 11.906,9.525 ; 14.287,-9.5 14.287,-7.5 ; 14.287,7.5 14.287,9.5 ; 16.669,-9.525 16.669,-8.738 ; 16.669,8.738 16.669,9.525 ; 19.05,-9.525 19.05,-8.255 ; 19.05,8.255 19.05,9.525 ; 19.156,0 21.431,0 ; 20.161,-4.763 21.431,-4.763 ; 20.161,4.762 21.431,4.762 ; 20.644,-7.144 21.431,-7.144 ; 20.644,-2.381 21.431,-2.381 ; 20.644,2.381 21.431,2.381 ; 20.644,7.144 21.431,7.144 ; 21.431,8.738 21.431,9.525 ; 4.763,-9.525 -11.906,-9.525 -11.906,9.525 4.763,9.525 ; 4.763,-9.525 21.431,-9.525 21.431,9.525 ; 4.763,9.525 21.431,9.525
  text "1.5" at 4.197,-6.458 h1
  text "1.25" at -1.365,-6.356 h1

## I-1U [mil] "Imperial Sizing"
pads (4):
  round 3.94 hole 20 unplated: 27(-265.5,-265.5) 27(-265.5,265.5) 27(265.5,-265.5) 27(265.5,265.5)
Keep-Out Layer:
  board cut-out: -265.5,-275.5 -267.49,-275.5 -271.16,-273.98 -273.98,-271.16 -275.5,-267.49 -275.5,-265.5 -275.5,265.5 -275.5,267.49 -273.98,271.16 -271.16,273.98 -267.49,275.5 -265.5,275.5 265.5,275.5 267.49,275.5 271.16,273.98 273.98,271.16 275.5,267.49 275.5,265.5 275.5,-265.5 275.5,-267.49 273.98,-271.16 271.16,-273.98 267.49,-275.5 265.5,-275.5
Board Outline:
  lines w3.94: -275.5,-265.5 ccw(c-265.5,-265.5) -265.5,-275.5 ; -275.5,265.5 cw(c-265.5,265.5) -265.5,275.5 ; 265.5,-275.5 ccw(c265.5,-265.5) 275.5,-265.5 ; 265.5,275.5 cw(c265.5,265.5) 275.5,265.5
  lines w4: -275.5,-265.5 -275.5,265.5 ; -265.5,-275.5 265.5,-275.5 ; -265.5,275.5 265.5,275.5 ; 275.5,-265.5 275.5,265.5
  text "Cut Out" at -238.79,112.53 h39.37
  text "Cut Out" at 112.53,238.79 h39.37
  text "Cut Out" at 238.79,-112.53 h39.37
  text "Cut Out" at -112.53,-238.79 h39.37
Layout + Dimensions:
  lines w3.94: -375,-281.25 -344,-281.25 ; -375,-187.5 -325,-187.5 ; -375,-93.75 -344,-93.75 ; -375,93.75 -344,93.75 ; -375,187.5 -325,187.5 ; -375,281.25 -344,281.25 ; -374.02,0 -295.28,0 ; -281.25,-375 -281.25,-344 ; -281.25,344 -281.25,375 ; -187.5,-375 -187.5,-325 ; -187.5,325 -187.5,375 ; -93.75,-375 -93.75,-344 ; -93.75,344 -93.75,375 ; 0,-374.02 0,-295.28 ; 0,295.28 0,374.02 ; 93.75,-375 93.75,-344 ; 93.75,344 93.75,375 ; 187.5,-375 187.5,-325 ; 187.5,325 187.5,375 ; 281.25,-375 281.25,-344 ; 281.25,344 281.25,375 ; 295.28,0 374.02,0 ; 325,-187.5 375,-187.5 ; 325,187.5 375,187.5 ; 344,-281.25 375,-281.25 ; 344,-93.75 375,-93.75 ; 344,93.75 375,93.75 ; 344,281.25 375,281.25 ; -375,-375 -375,375 375,375 375,-375 -375,-375

## I-1U -  Plated [mil] "Imperial Sizing"
pads (4):
  round 3.94 hole 20 unplated: 27(-265.5,-265.5) 27(-265.5,265.5) 27(265.5,-265.5) 27(265.5,265.5)
Top Layer:
  region: 357.96,364.15 364.15,357.96 367.5,349.88 367.5,345.5 367.5,-345.5 367.5,-349.88 364.15,-357.96 357.96,-364.15 349.88,-367.5 -349.88,-367.5 -357.96,-364.15 -364.15,-357.96 -367.5,-349.88 -367.5,-345.5 -367.5,345.5 -367.5,349.88 -364.15,357.96 -357.96,364.15 -349.88,367.5 349.88,367.5 hole: 265.5,275.7 264.51,275.5 -264.52,275.5 -265.5,275.7 -266.48,275.5 -267.49,275.5 -268.42,275.12 -269.4,274.92 -270.24,274.36 -271.16,273.98 -271.88,273.27 -272.71,272.71 -273.27,271.88 -273.98,271.16 -274.36,270.24 -274.92,269.4 -275.12,268.42 -275.5,267.49 -275.5,266.48 -275.7,265.5 -275.5,264.52 -275.5,-264.52 -275.7,-265.5 -275.5,-266.48 -275.5,-267.49 -275.12,-268.42 -274.92,-269.4 -274.36,-270.24 -273.98,-271.16 -273.27,-271.88 -272.71,-272.71 -271.88,-273.27 -271.17,-273.98 -270.24,-274.36 -269.4,-274.92 -268.42,-275.12 -267.49,-275.5 -266.49,-275.5 -265.5,-275.7 -264.52,-275.5 264.52,-275.5 265.5,-275.7 266.48,-275.5 267.49,-275.5 268.42,-275.12 269.4,-274.92 270.24,-274.36 271.16,-273.98 271.87,-273.27 272.71,-272.71 273.27,-271.88 273.98,-271.16 274.36,-270.24 274.92,-269.4 275.12,-268.42 275.5,-267.49 275.5,-266.48 275.7,-265.5 275.5,-264.52 275.5,264.52 275.7,265.5 275.5,266.48 275.5,267.49 275.12,268.42 274.92,269.4 274.36,270.24 273.98,271.16 273.27,271.87 272.71,272.71 271.87,273.27 271.16,273.98 270.24,274.36 269.4,274.92 268.42,275.12 267.49,275.5 266.48,275.5
Bottom Layer:
  region: 357.96,364.15 364.15,357.96 367.5,349.88 367.5,345.5 367.5,-345.5 367.5,-349.88 364.15,-357.96 357.96,-364.15 349.88,-367.5 -349.88,-367.5 -357.96,-364.15 -364.15,-357.96 -367.5,-349.88 -367.5,-345.5 -367.5,345.5 -367.5,349.88 -364.15,357.96 -357.96,364.15 -349.88,367.5 349.88,367.5 hole: 265.5,275.7 264.51,275.5 -264.52,275.5 -265.5,275.7 -266.48,275.5 -267.49,275.5 -268.42,275.12 -269.4,274.92 -270.24,274.36 -271.16,273.98 -271.88,273.27 -272.71,272.71 -273.27,271.88 -273.98,271.16 -274.36,270.24 -274.92,269.4 -275.12,268.42 -275.5,267.49 -275.5,266.48 -275.7,265.5 -275.5,264.52 -275.5,-264.52 -275.7,-265.5 -275.5,-266.48 -275.5,-267.49 -275.12,-268.42 -274.92,-269.4 -274.36,-270.24 -273.98,-271.16 -273.27,-271.88 -272.71,-272.71 -271.88,-273.27 -271.17,-273.98 -270.24,-274.36 -269.4,-274.92 -268.42,-275.12 -267.49,-275.5 -266.49,-275.5 -265.5,-275.7 -264.52,-275.5 264.52,-275.5 265.5,-275.7 266.48,-275.5 267.49,-275.5 268.42,-275.12 269.4,-274.92 270.24,-274.36 271.16,-273.98 271.87,-273.27 272.71,-272.71 273.27,-271.88 273.98,-271.16 274.36,-270.24 274.92,-269.4 275.12,-268.42 275.5,-267.49 275.5,-266.48 275.7,-265.5 275.5,-264.52 275.5,264.52 275.7,265.5 275.5,266.48 275.5,267.49 275.12,268.42 274.92,269.4 274.36,270.24 273.98,271.16 273.27,271.87 272.71,272.71 271.87,273.27 271.16,273.98 270.24,274.36 269.4,274.92 268.42,275.12 267.49,275.5 266.48,275.5
Top Solder:
  region: -345.5,-367.5 -349.88,-367.5 -357.96,-364.15 -364.15,-357.96 -367.5,-349.88 -367.5,-345.5 -367.5,345.5 -367.5,349.88 -364.15,357.96 -357.96,364.15 -349.88,367.5 -345.5,367.5 345.5,367.5 349.88,367.5 357.96,364.15 364.15,357.96 367.5,349.88 367.5,345.5 367.5,-345.5 367.5,-349.88 364.15,-357.96 357.96,-364.15 349.88,-367.5 345.5,-367.5
Bottom Solder:
  region: -345.5,-367.5 -349.88,-367.5 -357.96,-364.15 -364.15,-357.96 -367.5,-349.88 -367.5,-345.5 -367.5,345.5 -367.5,349.88 -364.15,357.96 -357.96,364.15 -349.88,367.5 -345.5,367.5 345.5,367.5 349.88,367.5 357.96,364.15 364.15,357.96 367.5,349.88 367.5,345.5 367.5,-345.5 367.5,-349.88 364.15,-357.96 357.96,-364.15 349.88,-367.5 345.5,-367.5
Keep-Out Layer:
  board cut-out: -265.5,-275.5 -267.49,-275.5 -271.16,-273.98 -273.98,-271.16 -275.5,-267.49 -275.5,-265.5 -275.5,265.5 -275.5,267.49 -273.98,271.16 -271.16,273.98 -267.49,275.5 -265.5,275.5 265.5,275.5 267.49,275.5 271.16,273.98 273.98,271.16 275.5,267.49 275.5,265.5 275.5,-265.5 275.5,-267.49 273.98,-271.16 271.16,-273.98 267.49,-275.5 265.5,-275.5
Board Outline:
  lines w3.94: -275.5,-265.5 ccw(c-265.5,-265.5) -265.5,-275.5 ; -275.5,265.5 cw(c-265.5,265.5) -265.5,275.5 ; 265.5,-275.5 ccw(c265.5,-265.5) 275.5,-265.5 ; 265.5,275.5 cw(c265.5,265.5) 275.5,265.5
  lines w4: -275.5,-265.5 -275.5,265.5 ; -265.5,-275.5 265.5,-275.5 ; -265.5,275.5 265.5,275.5 ; 275.5,-265.5 275.5,265.5
  text "Cut Out" at -112.53,-238.79 h39.37
  text "Cut Out" at 238.79,-112.53 h39.37
  text "Cut Out" at 112.53,238.79 h39.37
  text "Cut Out" at -238.79,112.53 h39.37
Layout + Dimensions:
  lines w3.94: -375,-281.25 -344,-281.25 ; -375,-187.5 -325,-187.5 ; -375,-93.75 -344,-93.75 ; -375,93.75 -344,93.75 ; -375,187.5 -325,187.5 ; -375,281.25 -344,281.25 ; -374.02,0 -295.28,0 ; -281.25,-375 -281.25,-344 ; -281.25,344 -281.25,375 ; -187.5,-375 -187.5,-325 ; -187.5,325 -187.5,375 ; -93.75,-375 -93.75,-344 ; -93.75,344 -93.75,375 ; 0,-374.02 0,-295.28 ; 0,295.28 0,374.02 ; 93.75,-375 93.75,-344 ; 93.75,344 93.75,375 ; 187.5,-375 187.5,-325 ; 187.5,325 187.5,375 ; 281.25,-375 281.25,-344 ; 281.25,344 281.25,375 ; 295.28,0 374.02,0 ; 325,-187.5 375,-187.5 ; 325,187.5 375,187.5 ; 344,-281.25 375,-281.25 ; 344,-93.75 375,-93.75 ; 344,93.75 375,93.75 ; 344,281.25 375,281.25 ; -375,-375 375,-375 375,375 -375,375 -375,-375
  lines w4: -367.5,-345.5 ccw(c-345.5,-345.5) -345.5,-367.5 345.5,-367.5 ccw(c345.5,-345.5) 367.5,-345.5 367.5,345.5 ccw(c345.5,345.5) 345.5,367.5 -345.5,367.5 ccw(c-345.5,345.5) -367.5,345.5 -367.5,-345.5

## I-2.5U [mm] "Imperial Sizing"
pads (16):
  round 0.1 hole 0.4 unplated: 27(-15.925,-0.295) 27(-15.92,2.1) 27(-15.025,-6.565) 27(-15.02,5.33) 27(-13.2,-7.765) 27(-10.605,-7.77) 27(-6.8,-6.795) 27(-6.795,6.8) 27(6.795,-6.8) 27(6.8,6.795) 27(10.6,-7.765) 27(13.195,-7.77) 27(15.02,-6.57) 27(15.025,5.325) 27(15.92,-0.3) 27(15.925,2.095)
Keep-Out Layer:
  drawing of 1 lines, arcs and shapes, not listed
Board Outline:
  lines w0.1: -16.125,-0.3 ccw(c-15.925,-0.3) -15.925,-0.5 -15.225,-0.5 -15.225,-6.57 ccw(c-15.025,-6.57) -15.025,-6.77 -13.4,-6.77 -13.4,-7.77 ccw(c-13.2,-7.77) -13.2,-7.97 -10.6,-7.97 ccw(c-10.6,-7.77) -10.4,-7.77 -10.4,-6.77 -7,-6.77 -7,-6.8 ccw(c-6.8,-6.8) -6.8,-7 6.8,-7 ccw(c6.8,-6.8) 7,-6.8 7,-6.77 10.4,-6.77 10.4,-7.77 ccw(c10.6,-7.77) 10.6,-7.97 13.2,-7.97 ccw(c13.2,-7.77) 13.4,-7.77 13.4,-6.77 15.025,-6.77 ccw(c15.025,-6.57) 15.225,-6.57 15.225,-0.5 15.925,-0.5 ccw(c15.925,-0.3) 16.125,-0.3 16.125,2.1 ccw(c15.925,2.1) 15.925,2.3 15.225,2.3 15.225,5.33 ccw(c15.025,5.33) 15.025,5.53 7,5.53 7,6.8 ccw(c6.8,6.8) 6.8,7 -6.8,7 ccw(c-6.8,6.8) -7,6.8 -7,5.53 -15.025,5.53 ccw(c-15.025,5.33) -15.225,5.33 -15.225,2.3 -15.925,2.3 ccw(c-15.925,2.1) -16.125,2.1 -16.125,-0.3
  text "Cut Out" at -2.915,-6.117 h1
  text "Cut Out" at 6.009,-2.91 h1
  text "Cut Out" at 2.802,6.014 h1
  text "Cut Out" at -6.122,2.807 h1
  text "Cut Out" at -2.922,-0.56 h1
Layout + Dimensions:
  lines w0.1: -23.812,-7.144 -23.025,-7.144 ; -23.812,-4.763 -22.542,-4.763 ; -23.812,-2.381 -23.025,-2.381 ; -23.812,0 -0.375,0 ; -23.812,2.381 -23.025,2.381 ; -23.812,4.763 -22.542,4.763 ; -23.812,7.144 -23.025,7.144 ; -21.431,-9.5 -21.431,-8.713 ; -21.431,8.713 -21.431,9.5 ; -19.05,-9.5 -19.05,-7.5 ; -19.05,7.5 -19.05,9.5 ; -16.669,-9.525 -16.669,-8.738 ; -16.669,8.738 -16.669,9.525 ; -14.287,-9.525 -14.287,-8.255 ; -14.287,8.255 -14.287,9.525 ; -11.906,-9.525 -11.906,-8.738 ; -11.906,8.738 -11.906,9.525 ; -11.9,-7.425 -11.9,2.375 ; -9.525,-9.5 -9.525,-7.5 ; -9.525,7.5 -9.525,9.5 ; -7.144,-9.525 -7.144,-8.738 ; -7.144,8.738 -7.144,9.525 ; -4.762,-9.525 -4.762,-8.255 ; -4.762,8.255 -4.762,9.525 ; -2.381,-9.525 -2.381,-8.738 ; -2.381,8.738 -2.381,9.525 ; 0,-7.25 0,-9.525 ; 0,7.25 0,9.525 ; 0.375,0 23.812,0 ; 2.381,-9.525 2.381,-8.738 ; 2.381,8.738 2.381,9.525 ; 4.763,-9.525 4.763,-8.255 ; 4.763,8.255 4.763,9.525 ; 7.144,-9.525 7.144,-8.738 ; 7.144,8.738 7.144,9.525 ; 9.525,-9.5 9.525,-7.5 ; 9.525,7.5 9.525,9.5 ; 11.9,-7.425 11.9,2.375 ; 11.906,-9.525 11.906,-8.738 ; 11.906,8.738 11.906,9.525 ; 14.288,-9.525 14.288,-8.255 ; 14.288,8.255 14.288,9.525 ; 16.669,-9.525 16.669,-8.738 ; 16.669,8.738 16.669,9.525 ; 19.05,-9.525 19.05,-7.5 ; 19.05,7.5 19.05,9.525 ; 21.431,-9.525 21.431,-8.738 ; 21.431,8.738 21.431,9.525 ; 22.543,-4.763 23.813,-4.763 ; 22.543,4.762 23.813,4.762 ; 23.025,-7.144 23.813,-7.144 ; 23.025,-2.381 23.813,-2.381 ; 23.025,2.381 23.813,2.381 ; 23.025,7.144 23.813,7.144 ; 0,-9.525 -23.812,-9.525 -23.812,9.525 0,9.525 ; 0,-9.525 23.813,-9.525 23.813,9.525 0,9.525

## I-2.5U - PLATED [mm] "Imperial Sizing"
pads (16):
  round 0.1 hole 0.4 unplated: 27(-15.925,-0.295) 27(-15.92,2.1) 27(-15.025,-6.565) 27(-15.02,5.33) 27(-13.2,-7.765) 27(-10.605,-7.77) 27(-6.8,-6.795) 27(-6.795,6.8) 27(6.795,-6.8) 27(6.8,6.795) 27(10.6,-7.765) 27(13.195,-7.77) 27(15.02,-6.57) 27(15.025,5.325) 27(15.92,-0.3) 27(15.925,2.095)
Top Layer:
  region: 9.092,9.249 9.249,9.092 9.334,8.887 9.334,8.776 9.334,-8.776 9.334,-8.887 9.249,-9.092 9.092,-9.249 8.887,-9.335 -8.887,-9.335 -9.092,-9.249 -9.249,-9.092 -9.335,-8.887 -9.335,-8.776 -9.335,8.776 -9.335,8.887 -9.249,9.092 -9.092,9.249 -8.887,9.335 8.887,9.335 hole: 6.744,7.003 6.719,6.998 -6.719,6.998 -6.744,7.003 -6.769,6.998 -6.794,6.998 -6.818,6.988 -6.843,6.983 -6.864,6.969 -6.888,6.959 -6.906,6.941 -6.927,6.927 -6.941,6.906 -6.959,6.888 -6.969,6.864 -6.983,6.843 -6.988,6.818 -6.998,6.794 -6.998,6.769 -7.003,6.744 -6.998,6.719 -6.998,-6.719 -7.003,-6.744 -6.998,-6.769 -6.998,-6.794 -6.988,-6.818 -6.983,-6.843 -6.969,-6.864 -6.959,-6.888 -6.941,-6.906 -6.927,-6.927 -6.906,-6.941 -6.888,-6.959 -6.864,-6.969 -6.843,-6.983 -6.818,-6.988 -6.794,-6.998 -6.769,-6.998 -6.744,-7.003 -6.719,-6.998 6.719,-6.998 6.744,-7.003 6.769,-6.998 6.794,-6.998 6.818,-6.988 6.843,-6.983 6.864,-6.969 6.888,-6.959 6.906,-6.941 6.927,-6.927 6.941,-6.906 6.959,-6.888 6.969,-6.864 6.983,-6.843 6.988,-6.818 6.998,-6.794 6.998,-6.769 7.003,-6.744 6.998,-6.719 6.998,6.719 7.003,6.744 6.998,6.769 6.998,6.794 6.988,6.818 6.983,6.843 6.969,6.864 6.959,6.888 6.941,6.906 6.927,6.927 6.906,6.941 6.888,6.959 6.864,6.969 6.843,6.983 6.818,6.988 6.794,6.998 6.769,6.998
Bottom Layer:
  region: 9.092,9.249 9.249,9.092 9.334,8.887 9.334,8.776 9.334,-8.776 9.334,-8.887 9.249,-9.092 9.092,-9.249 8.887,-9.335 -8.887,-9.335 -9.092,-9.249 -9.249,-9.092 -9.335,-8.887 -9.335,-8.776 -9.335,8.776 -9.335,8.887 -9.249,9.092 -9.092,9.249 -8.887,9.335 8.887,9.335 hole: 6.744,7.003 6.719,6.998 -6.719,6.998 -6.744,7.003 -6.769,6.998 -6.794,6.998 -6.818,6.988 -6.843,6.983 -6.864,6.969 -6.888,6.959 -6.906,6.941 -6.927,6.927 -6.941,6.906 -6.959,6.888 -6.969,6.864 -6.983,6.843 -6.988,6.818 -6.998,6.794 -6.998,6.769 -7.003,6.744 -6.998,6.719 -6.998,-6.719 -7.003,-6.744 -6.998,-6.769 -6.998,-6.794 -6.988,-6.818 -6.983,-6.843 -6.969,-6.864 -6.959,-6.888 -6.941,-6.906 -6.927,-6.927 -6.906,-6.941 -6.888,-6.959 -6.864,-6.969 -6.843,-6.983 -6.818,-6.988 -6.794,-6.998 -6.769,-6.998 -6.744,-7.003 -6.719,-6.998 6.719,-6.998 6.744,-7.003 6.769,-6.998 6.794,-6.998 6.818,-6.988 6.843,-6.983 6.864,-6.969 6.888,-6.959 6.906,-6.941 6.927,-6.927 6.941,-6.906 6.959,-6.888 6.969,-6.864 6.983,-6.843 6.988,-6.818 6.998,-6.794 6.998,-6.769 7.003,-6.744 6.998,-6.719 6.998,6.719 7.003,6.744 6.998,6.769 6.998,6.794 6.988,6.818 6.983,6.843 6.969,6.864 6.959,6.888 6.941,6.906 6.927,6.927 6.906,6.941 6.888,6.959 6.864,6.969 6.843,6.983 6.818,6.988 6.794,6.998 6.769,6.998
Top Solder:
  region: -8.776,-9.335 -8.887,-9.335 -9.092,-9.249 -9.249,-9.092 -9.335,-8.887 -9.335,-8.776 -9.335,8.776 -9.335,8.887 -9.249,9.092 -9.092,9.249 -8.887,9.335 -8.776,9.335 8.776,9.335 8.887,9.335 9.092,9.249 9.249,9.092 9.334,8.887 9.334,8.776 9.334,-8.776 9.334,-8.887 9.249,-9.092 9.092,-9.249 8.887,-9.335 8.776,-9.335
Bottom Solder:
  region: -8.776,-9.335 -8.887,-9.335 -9.092,-9.249 -9.249,-9.092 -9.335,-8.887 -9.335,-8.776 -9.335,8.776 -9.335,8.887 -9.249,9.092 -9.092,9.249 -8.887,9.335 -8.776,9.335 8.776,9.335 8.887,9.335 9.092,9.249 9.249,9.092 9.334,8.887 9.334,8.776 9.334,-8.776 9.334,-8.887 9.249,-9.092 9.092,-9.249 8.887,-9.335 8.776,-9.335
Keep-Out Layer:
  drawing of 1 lines, arcs and shapes, not listed
Board Outline:
  lines w0.1: -16.125,-0.3 ccw(c-15.925,-0.3) -15.925,-0.5 -15.225,-0.5 -15.225,-6.57 ccw(c-15.025,-6.57) -15.025,-6.77 -13.4,-6.77 -13.4,-7.77 ccw(c-13.2,-7.77) -13.2,-7.97 -10.6,-7.97 ccw(c-10.6,-7.77) -10.4,-7.77 -10.4,-6.77 -7,-6.77 -7,-6.8 ccw(c-6.8,-6.8) -6.8,-7 6.8,-7 ccw(c6.8,-6.8) 7,-6.8 7,-6.77 10.4,-6.77 10.4,-7.77 ccw(c10.6,-7.77) 10.6,-7.97 13.2,-7.97 ccw(c13.2,-7.77) 13.4,-7.77 13.4,-6.77 15.025,-6.77 ccw(c15.025,-6.57) 15.225,-6.57 15.225,-0.5 15.925,-0.5 ccw(c15.925,-0.3) 16.125,-0.3 16.125,2.1 ccw(c15.925,2.1) 15.925,2.3 15.225,2.3 15.225,5.33 ccw(c15.025,5.33) 15.025,5.53 7,5.53 7,6.8 ccw(c6.8,6.8) 6.8,7 -6.8,7 ccw(c-6.8,6.8) -7,6.8 -7,5.53 -15.025,5.53 ccw(c-15.025,5.33) -15.225,5.33 -15.225,2.3 -15.925,2.3 ccw(c-15.925,2.1) -16.125,2.1 -16.125,-0.3
  text "Cut Out" at -2.922,-0.56 h1
  text "Cut Out" at -6.122,2.807 h1
  text "Cut Out" at 2.802,6.014 h1
  text "Cut Out" at 6.009,-2.91 h1
  text "Cut Out" at -2.915,-6.117 h1
Layout + Dimensions:
  lines w0.1: -23.812,-7.144 -23.025,-7.144 ; -23.812,-4.763 -22.542,-4.763 ; -23.812,-2.381 -23.025,-2.381 ; -23.812,0 -0.375,0 ; -23.812,2.381 -23.025,2.381 ; -23.812,4.763 -22.542,4.763 ; -23.812,7.144 -23.025,7.144 ; -21.431,-9.5 -21.431,-8.713 ; -21.431,8.713 -21.431,9.5 ; -19.05,-9.5 -19.05,-7.5 ; -19.05,7.5 -19.05,9.5 ; -16.669,-9.525 -16.669,-8.738 ; -16.669,8.738 -16.669,9.525 ; -14.287,-9.525 -14.287,-8.255 ; -14.287,8.255 -14.287,9.525 ; -11.906,-9.525 -11.906,-8.738 ; -11.906,8.738 -11.906,9.525 ; -11.9,-7.425 -11.9,2.375 ; -9.525,-9.5 -9.525,-7.5 ; -9.525,7.5 -9.525,9.5 ; -7.144,-9.525 -7.144,-8.738 ; -7.144,8.738 -7.144,9.525 ; -4.762,-9.525 -4.762,-8.255 ; -4.762,8.255 -4.762,9.525 ; -2.381,-9.525 -2.381,-8.738 ; -2.381,8.738 -2.381,9.525 ; 0,-7.25 0,-9.525 ; 0,7.25 0,9.525 ; 0.375,0 23.812,0 ; 2.381,-9.525 2.381,-8.738 ; 2.381,8.738 2.381,9.525 ; 4.763,-9.525 4.763,-8.255 ; 4.763,8.255 4.763,9.525 ; 7.144,-9.525 7.144,-8.738 ; 7.144,8.738 7.144,9.525 ; 9.525,-9.5 9.525,-7.5 ; 9.525,7.5 9.525,9.5 ; 11.9,-7.425 11.9,2.375 ; 11.906,-9.525 11.906,-8.738 ; 11.906,8.738 11.906,9.525 ; 14.288,-9.525 14.288,-8.255 ; 14.288,8.255 14.288,9.525 ; 16.669,-9.525 16.669,-8.738 ; 16.669,8.738 16.669,9.525 ; 19.05,-9.525 19.05,-7.5 ; 19.05,7.5 19.05,9.525 ; 21.431,-9.525 21.431,-8.738 ; 21.431,8.738 21.431,9.525 ; 22.543,-4.763 23.813,-4.763 ; 22.543,4.762 23.813,4.762 ; 23.025,-7.144 23.813,-7.144 ; 23.025,-2.381 23.813,-2.381 ; 23.025,2.381 23.813,2.381 ; 23.025,7.144 23.813,7.144 ; 0,-9.525 23.813,-9.525 23.813,9.525 0,9.525 ; 0,-9.525 -23.812,-9.525 -23.812,9.525 0,9.525

## I-2.25U [mm] "Imperial Sizing"
pads (16):
  round 0.1 hole 0.4 unplated: 27(-15.925,-0.295) 27(-15.92,2.1) 27(-15.025,-6.565) 27(-15.02,5.33) 27(-13.2,-7.765) 27(-10.605,-7.77) 27(-6.8,-6.795) 27(-6.795,6.8) 27(6.795,-6.8) 27(6.8,6.795) 27(10.6,-7.765) 27(13.195,-7.77) 27(15.02,-6.57) 27(15.025,5.325) 27(15.92,-0.3) 27(15.925,2.095)
Keep-Out Layer:
  drawing of 1 lines, arcs and shapes, not listed
Board Outline:
  lines w0.1: -16.125,-0.3 ccw(c-15.925,-0.3) -15.925,-0.5 -15.225,-0.5 -15.225,-6.57 ccw(c-15.025,-6.57) -15.025,-6.77 -13.4,-6.77 -13.4,-7.77 ccw(c-13.2,-7.77) -13.2,-7.97 -10.6,-7.97 ccw(c-10.6,-7.77) -10.4,-7.77 -10.4,-6.77 -7,-6.77 -7,-6.8 ccw(c-6.8,-6.8) -6.8,-7 6.8,-7 ccw(c6.8,-6.8) 7,-6.8 7,-6.77 10.4,-6.77 10.4,-7.77 ccw(c10.6,-7.77) 10.6,-7.97 13.2,-7.97 ccw(c13.2,-7.77) 13.4,-7.77 13.4,-6.77 15.025,-6.77 ccw(c15.025,-6.57) 15.225,-6.57 15.225,-0.5 15.925,-0.5 ccw(c15.925,-0.3) 16.125,-0.3 16.125,2.1 ccw(c15.925,2.1) 15.925,2.3 15.225,2.3 15.225,5.33 ccw(c15.025,5.33) 15.025,5.53 7,5.53 7,6.8 ccw(c6.8,6.8) 6.8,7 -6.8,7 ccw(c-6.8,6.8) -7,6.8 -7,5.53 -15.025,5.53 ccw(c-15.025,5.33) -15.225,5.33 -15.225,2.3 -15.925,2.3 ccw(c-15.925,2.1) -16.125,2.1 -16.125,-0.3
  text "Cut Out" at -6.122,2.802 h1
  text "Cut Out" at 2.802,6.009 h1
  text "Cut Out" at 6.009,-2.915 h1
  text "Cut Out" at -2.915,-6.122 h1
Layout + Dimensions:
  lines w0.1: -21.431,-7.144 -20.644,-7.144 ; -21.431,-4.763 -20.161,-4.763 ; -21.431,-2.381 -20.644,-2.381 ; -21.431,0 -0.375,0 ; -21.431,2.381 -20.644,2.381 ; -21.431,4.762 -20.161,4.762 ; -21.431,7.144 -20.644,7.144 ; -19.05,-9.5 -19.05,-7.5 ; -19.05,7.5 -19.05,9.5 ; -16.669,-9.525 -16.669,-8.738 ; -16.669,8.738 -16.669,9.525 ; -14.287,-9.525 -14.287,-8.255 ; -14.287,8.255 -14.287,9.525 ; -11.906,-9.525 -11.906,-8.738 ; -11.906,8.738 -11.906,9.525 ; -11.9,-7.425 -11.9,2.375 ; -9.525,-9.5 -9.525,-7.5 ; -9.525,7.5 -9.525,9.5 ; -7.144,-9.525 -7.144,-8.738 ; -7.144,8.738 -7.144,9.525 ; -4.763,-9.525 -4.763,-8.255 ; -4.763,8.255 -4.763,9.525 ; -2.381,-9.525 -2.381,-8.738 ; -2.381,8.738 -2.381,9.525 ; 0,-7.25 0,-9.525 ; 0,7.25 0,9.525 ; 0.375,0 21.431,0 ; 2.381,-9.525 2.381,-8.738 ; 2.381,8.738 2.381,9.525 ; 4.763,-9.525 4.763,-8.255 ; 4.763,8.255 4.763,9.525 ; 7.144,-9.525 7.144,-8.738 ; 7.144,8.738 7.144,9.525 ; 9.525,-9.5 9.525,-7.5 ; 9.525,7.5 9.525,9.5 ; 11.9,-7.425 11.9,2.375 ; 11.906,-9.525 11.906,-8.738 ; 11.906,8.738 11.906,9.525 ; 14.287,-9.525 14.287,-8.255 ; 14.287,8.255 14.287,9.525 ; 16.669,-9.525 16.669,-8.738 ; 16.669,8.738 16.669,9.525 ; 19.05,-9.5 19.05,-7.5 ; 19.05,7.5 19.05,9.5 ; 20.161,-4.763 21.431,-4.763 ; 20.161,4.762 21.431,4.762 ; 20.644,-7.144 21.431,-7.144 ; 20.644,-2.381 21.431,-2.381 ; 20.644,2.381 21.431,2.381 ; 20.644,7.144 21.431,7.144 ; 0,-9.525 21.431,-9.525 21.431,9.525 0,9.525 ; 0,-9.525 -21.431,-9.525 -21.431,9.525 0,9.525